# Altium footprint library LPEDT_proj_lib.PcbLib: 37 footprints (part 2 of 3)
Each footprint in its own frame and in the unit in brackets; x right, y up, seen from the top. Pads: shape width x height; smd on the part's side, far side on the other; paste and mask are expansions set on the pad; w line width, h text height; cw(c..) or ccw(c..) is an arc to the next point about the centre after c.
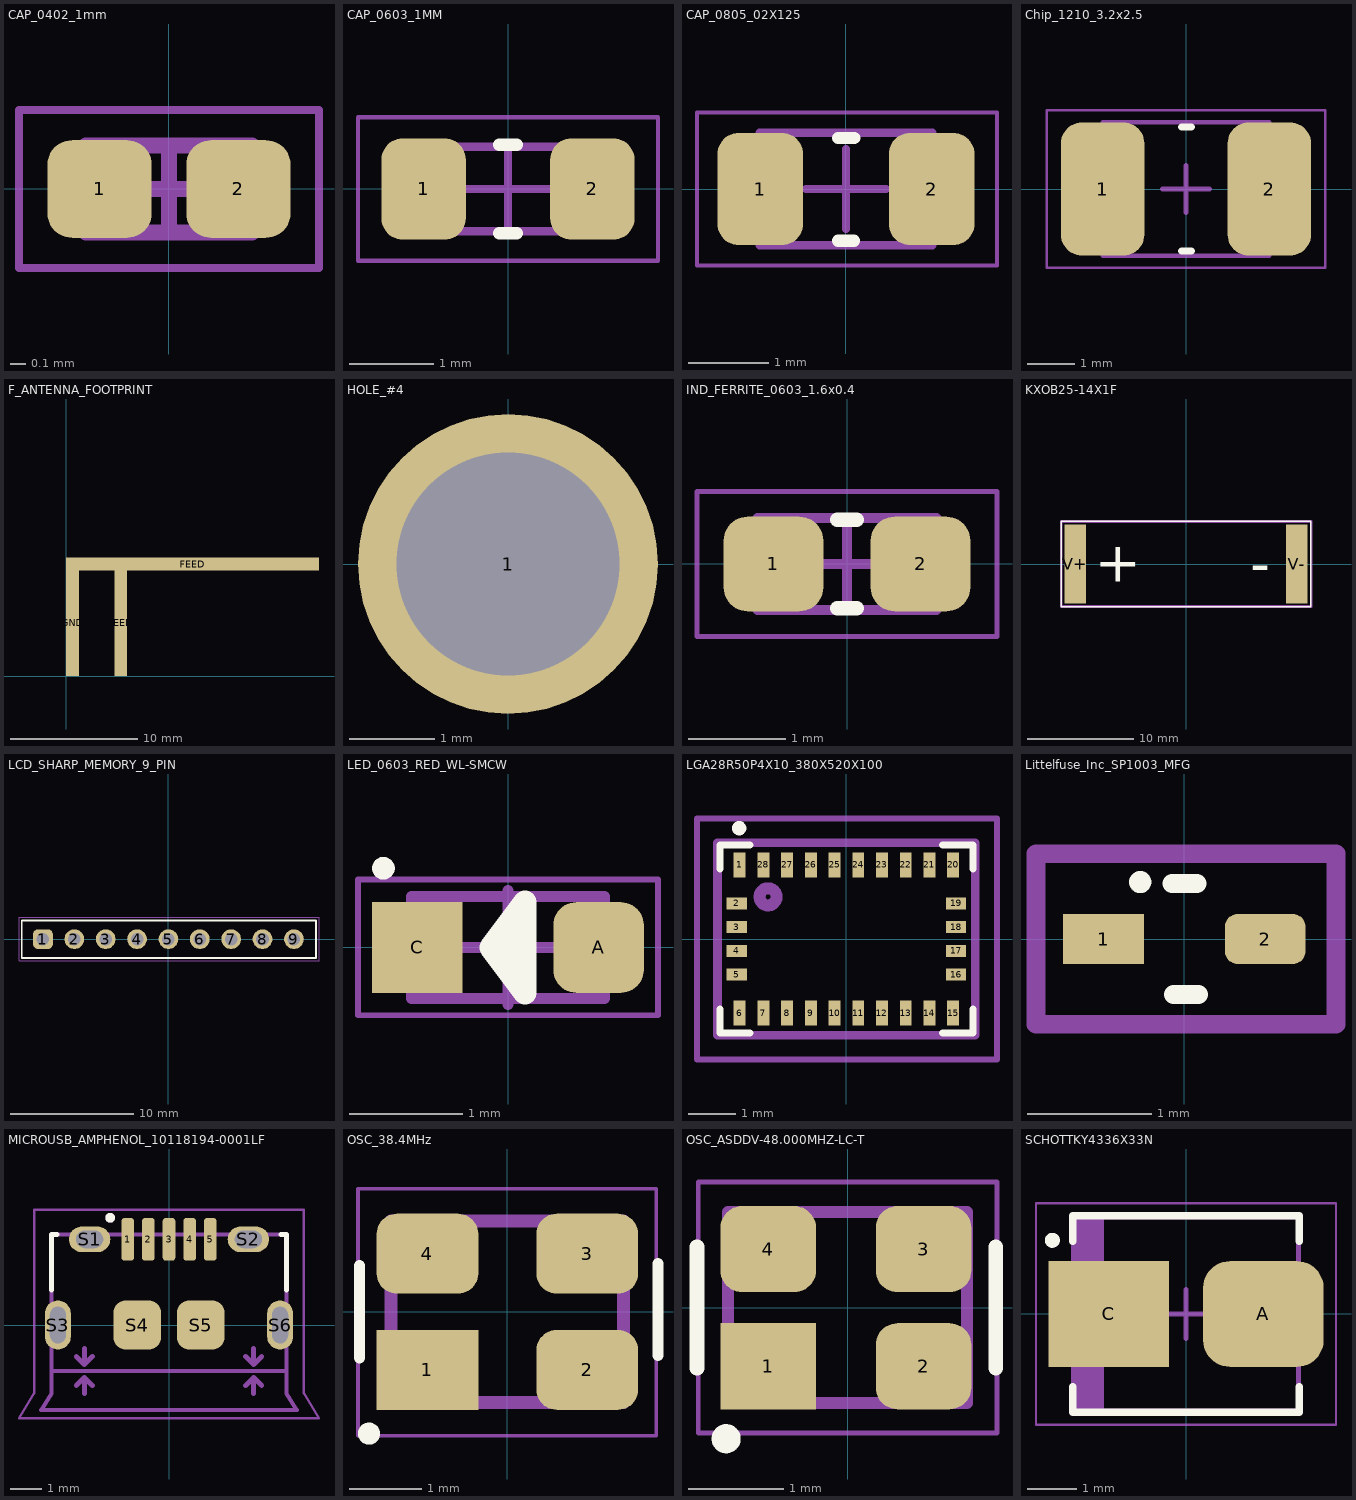
[diagram p1: the footprints below, top view; thin cyan lines are the x and y axes]

## CAP_0402_1mm [mm] "1.00x0.5"
height 0.55
pads (2):
  rrect50% 0.66x0.62 smd mask+0.08: 1(-0.44,0) 2(0.44,0)
Mechanical 13:
  lines w0.1: -0.525,-0.275 -0.525,0.275 0.525,0.275 0.525,-0.275 -0.525,-0.275
  text ".Designator" at -0.405,-0.158 h0.28
Mechanical 15:
  lines w0.05: -0.95,-0.5 -0.95,0.5 0.95,0.5 0.95,-0.5 -0.95,-0.5
  lines w0.1: -0.275,0 0.275,0 ; 0,-0.275 0,0.275
3D body "CAP_0402_1mm.step": height 0.55, standoff 0, extent -0.525,-0.275 0.525,0.275

## CAP_0603_1MM [mm] "Chip Capacitor, 2-Leads, Body 1.60x0.80mm, IPC Medium Density"
height 1
pads (2):
  rrect50% 1x1.2 smd: 1(-1,0) 2(1,0)
Top Overlay:
  lines w0.152: -0.1,-0.525 0.1,-0.525 ; -0.1,0.525 0.1,0.525
Mechanical 13:
  lines w0.1: -0.9,-0.5 0.9,-0.5 0.9,0.5 -0.9,0.5 -0.9,-0.5
  text ".Designator" at -0.723,-0.254 h0.5
Mechanical 15:
  lines w0.05: -1.778,-0.85 1.778,-0.85 1.778,0.85 -1.778,0.85 -1.778,-0.85
  lines w0.1: -0.5,0 0.5,0 ; 0,-0.5 0,0.5
3D body "CAP_0603_1608X10.step": height 1, standoff 0, extent -0.9,-0.5 0.9,0.5

## CAP_0805_02X125 [mil] "Chip Capacitor, 2-Leads, Body 2.00x1.25mm, IPC Medium Density"
height 55.12
pads (2):
  rrect50% 42x55.12 smd: 1(-42,0) 2(42,0)
Top Overlay:
  lines w6: -3.94,-25.34 3.94,-25.34 ; -3.87,25 4,25
Mechanical 13:
  lines w3.94: -42.32,-27.56 -42.32,27.56 42.32,27.56 42.32,-27.56 -42.32,-27.56
  text ".Designator" at -31.34,-11.34 h24.57
Mechanical 15:
  lines w1.97: -73,-37.4 -73,37.4 74,37.4 74,-37.4 -73,-37.4
  lines w3.94: -19.69,0 19.68,0 ; 0,-19.68 0,19.69
3D body "CAP_0805_02X125.step": height 55.12, standoff 0, extent -42.32,-27.56 42.32,27.56

## Chip_1210_3.2x2.5 [mm]
height 2.8
pads (2):
  rrect50% 1.75x2.8 smd: 1(-1.75,0) 2(1.75,0)
Top Overlay:
  lines w0.152: -0.087,-1.3 0.113,-1.3 ; -0.087,1.3 0.113,1.3
Mechanical 13:
  lines w0.1: -1.75,-1.4 -1.75,1.4 1.75,1.4 1.75,-1.4 -1.75,-1.4
  text ".Designator" at -1.448,-0.982 h1.02
Mechanical 15:
  lines w0.05: -2.921,-1.65 -2.921,1.65 2.921,1.65 2.921,-1.65 -2.921,-1.65
  lines w0.1: -0.5,0 0.5,0 ; 0,-0.5 0,0.5
3D body "Chip_1210_3.2x2.5.step": height 2.8, standoff 0, extent -1.75,-1.4 1.75,1.4

## F_ANTENNA_FOOTPRINT [mil]
pads (3):
  rect 40x331 smd paste-20 mask+0: FEED(169,165.5) GND(20,165.5)
  rect 782x39 smd paste-19.5 mask+0: FEED(391,347)

## HOLE_#4 [mm]
pads (1):
  round 3.5 hole 2.6: 1(0,0)

## IND_FERRITE_0603_1.6x0.4 [mm] "1.6x0.4x0.8"
height 0.95
pads (2):
  rrect50% 1.03x0.98 smd: 1(-0.76,0) 2(0.76,0)
Top Overlay:
  lines w0.152: -0.102,-0.457 0.098,-0.457 ; -0.102,0.457 0.098,0.457
Mechanical 13:
  lines w0.1: -0.925,-0.475 0.925,-0.475 0.925,0.475 -0.925,0.475 -0.925,-0.475
  text ".Designator" at -0.696,-0.275 h0.5
Mechanical 15:
  lines w0.05: -1.55,-0.75 1.55,-0.75 1.55,0.75 -1.55,0.75 -1.55,-0.75
  lines w0.1: -0.475,0 0.475,0 ; 0,-0.475 0,0.475
3D body "IND_FERRITE_0603.step": height 0.95, standoff 0, extent -0.925,-0.475 0.925,0.475

## KXOB25-14X1F [mm]
pads (2):
  rect 2x7.4 smd: V+(-10.4,0) V-(10.4,0)
Top Overlay:
  lines w0.127: -11.75,-4 -11.75,4 11.75,4 11.75,-4 -11.75,-4
  text "-" at 6.045,-1.803 h3.81
  text "+" at -8.56,-1.676 h3.81
Mechanical 13:
  lines w0.254: -11.735,-3.988 11.76,-3.988 11.76,3.988 -11.735,3.988 -11.735,-3.988
  text ".Designator" at -8.712,-3.353 h0.76

## LCD_SHARP_MEMORY_9_PIN [mm]
pads (9):
  rrect50% 1.6x1.6 hole 1.02: 1(-10.16,0)
  round 1.6 hole 1.02: 2(-7.62,0) 3(-5.08,0) 4(-2.54,0) 5(0,0) 6(2.54,0) 7(5.08,0) 8(7.62,0) 9(10.16,0)
Top Overlay:
  lines w0.152: -11.874,-1.524 -11.874,1.524 11.938,1.524 11.938,-1.524 -11.874,-1.524
Mechanical 13:
  lines w0.1: -11.874,-1.524 11.938,-1.524 11.938,1.524 -11.874,1.524 -11.874,-1.524
  text ".Designator" at -6.35,-0.508 h1.3
Mechanical 15:
  lines w0.05: -12.099,-1.749 -12.099,1.778 12.192,1.778 12.192,-1.749 -12.099,-1.749
3D body "PRPC009SAAN-RC (1).STEP": height 7.62, standoff -3.05, extent -11.43,-1.27 11.43,1.27

## LED_0603_RED_WL-SMCW [mm] "SODFL, 2-Leads, Body 0.80x1.80mm, IPC Medium Density"
height 0.8
pads (2):
  rrect50% 0.8x0.8 smd: A(0.8,0)
  rect 0.8x0.8 smd: C(-0.8,0)
Top Overlay:
  circle w0.1: c-1.1,0.7 r0.05
  lines w0.2: -0.15,0 0.05,0
  lines w0.205: -0.15,0 0.15,-0.4 0.15,0.4 -0.15,0
Mechanical 13:
  lines w0.1: -0.85,-0.45 -0.85,0.45 0.85,0.45 0.85,-0.45 -0.85,-0.45
  text ".Designator" at -0.723,-0.254 h0.5
Mechanical 15:
  lines w0.05: -1.325,-0.6 -1.325,0.6 1.325,0.6 1.325,-0.6 -1.325,-0.6
  lines w0.1: -0.5,0 0.5,0 ; 0,-0.5 0,0.5
3D body "150060AS75000_STP_150060xS75000_rev1.stp": height 0.7, standoff 0, extent -0.8,-0.4 0.8,0.4

## LGA28R50P4X10_380X520X100 [mm]
pads (28):
  rect 0.25x0.525 smd mask+0.051: 1(-2.25,1.563) 6(-2.25,-1.562) 7(-1.75,-1.562) 8(-1.25,-1.562) 9(-0.75,-1.562) 10(-0.25,-1.562) 11(0.25,-1.562) 12(0.75,-1.562) 13(1.25,-1.562) 14(1.75,-1.562) 15(2.25,-1.562) 20(2.25,1.563) 21(1.75,1.563) 22(1.25,1.563) 23(0.75,1.563) 24(0.25,1.563) 25(-0.25,1.563) 26(-0.75,1.563) 27(-1.25,1.563) 28(-1.75,1.563)
  rect 0.425x0.25 smd mask+0.051: 2(-2.312,0.75) 3(-2.312,0.25) 4(-2.312,-0.25) 5(-2.312,-0.75) 16(2.313,-0.75) 17(2.313,-0.25) 18(2.313,0.25) 19(2.313,0.75)
Top Overlay:
  circle w0.152: c-2.261,2.337 r0.076
  lines w0.152: -2.667,-1.473 -2.667,-1.981 -2.159,-1.981 -2.032,-1.981 ; -2.667,1.473 -2.667,1.981 -2.032,1.981 ; 2.032,-1.981 2.159,-1.981 2.667,-1.981 2.667,-1.473 ; 2.032,1.981 2.667,1.981 2.667,1.473
Mechanical 13:
  circle w0.254: c-1.651,0.889 r0.18
  lines w0.18: -2.718,-2.032 2.718,-2.032 2.718,2.032 -2.718,2.032 -2.718,-2.032
  text ".Designator" at -2.413,-1.27 h1.52
Mechanical 15:
  lines w0.127: -3.15,-2.54 -3.15,2.54 3.175,2.54 3.175,-2.54 -3.15,-2.54
3D body "BNO055--3DModel-STEP-56544.STEP": height 1.18, standoff 0, extent -2.6,-1.9 2.6,1.9

## Littelfuse_Inc_SP1003_MFG [mm]
pads (2):
  rect 0.65x0.4 smd paste+0 mask+0.051: 1(-0.65,0)
  rrect50% 0.65x0.4 smd paste+0 mask+0.051: 2(0.65,0)
Top Overlay:
  circle w0.152: c-0.356,0.457 r0.013
  lines w0.152: -0.098,0.446 0.102,0.446 ; -0.087,-0.446 0.113,-0.446
Mechanical 13:
  lines w0.152: -1.194,-0.686 1.219,-0.686 1.219,0.686 -1.194,0.686 -1.194,-0.686
  text ".Designator" at -0.94,-0.423 h0.64
Mechanical 15:
  lines w0.152: -1.194,-0.686 1.219,-0.686 1.219,0.686 -1.194,0.686 -1.194,-0.686
3D body "Diode_Littelfuse_Inc_SP1003-01DTG_eec.STEP": height 0.65, standoff 0, extent -0.7,-0.3 0.7,0.3

## MICROUSB_AMPHENOL_10118194-0001LF [mm]
pads (11):
  rrect50% 0.4x1.35 smd: 1(-1.3,2.7) 2(-0.65,2.7) 3(0,2.7) 4(0.65,2.7) 5(1.3,2.7)
  oval 1.3x0.813 hole 0.55 slot 0.85 at 0 deg: S1(-2.5,2.7) S2(2.5,2.7)
  oval 0.813x1.55 hole 0.5 slot 1.15 at 90 deg: S3(-3.5,0) S6(3.5,0)
  rrect50% 1.5x1.55 smd: S4(-1,0) S5(1,0)
Top Overlay:
  circle w0.152: c-1.854,3.378 r0.076
  lines w0.152: -3.7,1.095 -3.7,2.85 -3.52,2.85 ; 3.52,2.85 3.7,2.85 3.7,1.095
Top Paste:
  lines w0: -3.5,0.6 -3.5,0.77 ; 3.5,-0.77 3.5,-0.6
Mechanical 13:
  circle w0.152: c-1.854,3.378 r0.076
  lines w0.127: -3.7,-1.45 3.7,-1.45 ; -3.7,-1.45 -3.7,-2.15 -4.025,-2.68 4.025,-2.68 3.7,-2.15 3.7,-1.45 ; -3.7,-1.45 -3.7,2.85 3.7,2.85 3.7,-1.45
  lines w0.152: -2.921,-1.905 -2.667,-1.651 ; -2.921,-0.991 -2.667,-1.245 ; -2.667,-2.159 -2.667,-1.651 ; -2.667,-0.737 -2.667,-1.245 ; -2.413,-1.905 -2.667,-1.651 ; -2.413,-0.991 -2.667,-1.245 ; 2.413,-1.905 2.667,-1.651 ; 2.413,-0.991 2.667,-1.245 ; 2.667,-2.159 2.667,-1.651 ; 2.667,-0.737 2.667,-1.245 ; 2.921,-1.905 2.667,-1.651 ; 2.921,-0.991 2.667,-1.245
  text "PCB END" at -1.651,-2.159 h0.5
  text ".Designator" at -3.429,1.143 h0.69
Mechanical 15:
  lines w0.076: -4.725,-2.93 4.725,-2.93 4.25,-2.15 4.25,3.625 -4.25,3.625 -4.25,-2.15 -4.725,-2.93
3D body "10118194c.stp": height 2.75, standoff -0.53, extent -4.05,-2.692 4,2.888

## OSC_38.4MHz [mm]
height 0.8
pads (4):
  rect 1.4x1.1 smd: 1(-1.1,-0.8)
  rrect50% 1.4x1.1 smd: 2(1.1,-0.8) 3(1.1,0.8) 4(-1.1,0.8)
Top Overlay:
  circle w0.152: c-1.905,-1.676 r0.076
  lines w0.152: -2.038,-0.635 -2.038,0.635 ; 2.073,-0.604 2.073,0.666
Mechanical 13:
  circle w0.2: c-1.265,-0.865 r0.1
  lines w0.18: -1.6,-1.25 1.6,-1.25 1.6,1.25 -1.6,1.25 -1.6,-1.25
  text ".Designator" at -1.324,-0.483 h1
Mechanical 15:
  lines w0.05: -2.056,-1.708 2.048,-1.708 2.048,1.692 -2.056,1.692 -2.056,-1.708

## OSC_ASDDV-48.000MHZ-LC-T [mm]
pads (4):
  rect 1x0.9 smd: 1(-0.83,-0.614)
  rrect50% 1x0.9 smd: 2(0.795,-0.614) 3(0.795,0.611) 4(-0.83,0.611)
Top Overlay:
  circle w0.152: c-1.27,-1.372 r0.076
  lines w0.152: -1.575,-0.635 -1.575,0.635 ; 1.549,-0.635 1.549,0.635
Mechanical 13:
  circle w0.2: c-0.889,0.635 r0.1
  lines w0.127: -1.25,-1 -1.25,1 1.25,1 1.25,-1 -1.25,-1
  text ".Designator" at -1.072,-0.568 h0.76
Mechanical 15:
  lines w0.05: -1.562,-1.312 -1.562,1.312 1.562,1.312 1.562,-1.312 -1.562,-1.312
3D body "ASDK.STEP": height 0.95, standoff 0, extent -1.25,-1 1.25,1

## SCHOTTKY4336X33N [mm] "Schottky Diode, 2-Leads, Body 4.31x3.62mm, IPC Medium Density"
height 3.3
pads (2):
  rrect50% 2.45x2.15 smd: A(1.575,0)
  rect 2.45x2.15 smd: C(-1.575,0)
Top Overlay:
  circle w0.152: c-2.718,1.499 r0.076
  lines w0.152: -2.3,-1.475 -2.3,-2 2.3,-2 2.3,-1.475 ; -2.3,1.475 -2.3,2 2.3,2 2.3,1.475
Mechanical 13:
  rectangle: -2.285,-1.97 -1.67,1.97
  lines w0.1: -2.285,-1.97 -2.285,1.97 2.285,1.97 2.285,-1.97 -2.285,-1.97
  text ".Designator" at -1.422,-1.66 h1.27
Mechanical 15:
  lines w0.05: -3.05,-2.25 -3.05,2.25 3.05,2.25 3.05,-2.25 -3.05,-2.25
  lines w0.1: -0.5,0 0.5,0 ; 0,-0.5 0,0.5
3D body: height 3.3, standoff 0, extent -2.285,-1.97 2.285,1.97